# EAGLE library part 74138SO (library mylib)
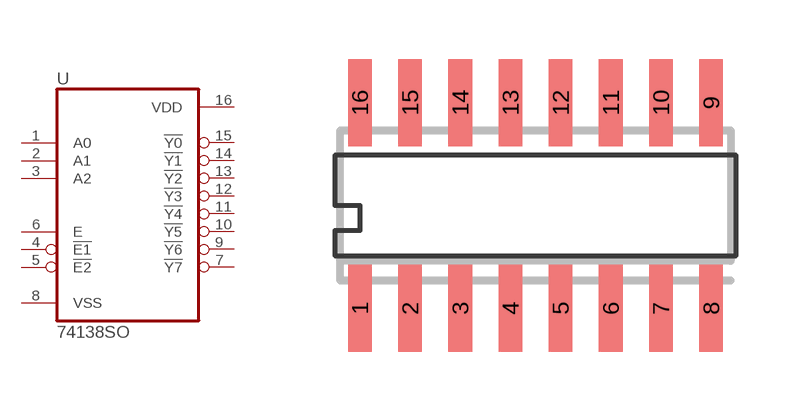
[diagram p21: symbol with the pads of SO16; footprint SO16]

Designator prefix -

## 74138SO  [SO16]
1  A0  in
2  A1  in
3  A2  in
4  !E1  in
5  !E2  in
6  E  in
7  !Y7  out
8  VSS
9  !Y6  out
10  !Y5  out
11  !Y4  out
12  !Y3  out
13  !Y2  out
14  !Y1  out
15  !Y0  out
16  VDD

## Footprint SO16 (pad centres in mm)
smd 0.6 x 2.2: 1 -4.445,-2.6; 2 -3.175,-2.6; 3 -1.905,-2.6; 4 -0.635,-2.6; 5 0.635,-2.6; 6 1.905,-2.6; 7 3.175,-2.6; 8 4.445,-2.6; 9 4.445,2.6; 10 3.175,2.6; 11 1.905,2.6; 12 0.635,2.6; 13 -0.635,2.6; 14 -1.905,2.6; 15 -3.175,2.6; 16 -4.445,2.6